# Altium footprint library SO.PcbLib: 18 footprints (part 2 of 2)
Each footprint in its own frame and in the unit in brackets; x right, y up, seen from the top. Pads: shape width x height; smd on the part's side, far side on the other; paste and mask are expansions set on the pad; w line width, h text height; cw(c..) or ccw(c..) is an arc to the next point about the centre after c.
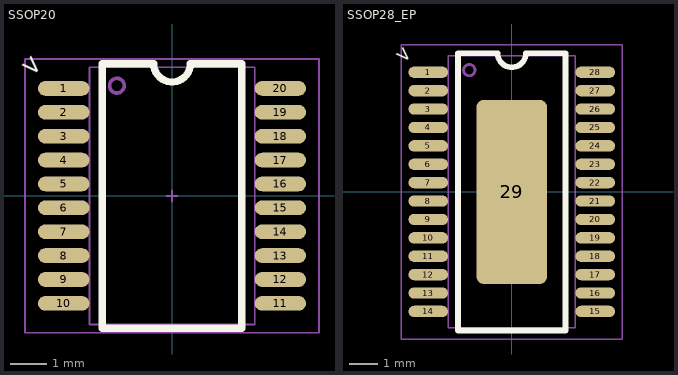
[diagram p1: the footprints below, top view; thin cyan lines are the x and y axes]

## SSOP20 [mm]
pads (20):
  oval 1.4x0.4 smd mask+0.05: 1(-2.95,2.925) 2(-2.95,2.275) 3(-2.95,1.625) 4(-2.95,0.975) 5(-2.95,0.325) 6(-2.95,-0.325) 7(-2.95,-0.975) 8(-2.95,-1.625) 9(-2.95,-2.275) 10(-2.95,-2.925) 11(2.95,-2.925) 12(2.95,-2.275) 13(2.95,-1.625) 14(2.95,-0.975) 15(2.95,-0.325) 16(2.95,0.325) 17(2.95,0.975) 18(2.95,1.625) 19(2.95,2.275) 20(2.95,2.925)
Top Overlay:
  lines w0.2: -1.9,-3.6 -1.9,3.6 -0.5,3.6 ccw(c0,3.6) 0.5,3.6 1.9,3.6 1.9,-3.6 -1.9,-3.6
  text ">" at -4.165,3.587 h0.5
Top Assembly:
  circle w0.1: c-1.5,3 r0.2
  lines w0.05: -2.25,-3.5 2.25,-3.5 2.25,3.5 -2.25,3.5 -2.25,-3.5
Top Courtyard:
  lines w0.05: -4,-3.725 -4,3.725 4,3.725 4,-3.725 -4,-3.725
Top Component Center:
  lines w0.05: -0.15,0 0.15,0 ; 0,-0.15 0,0.15
3D body "TSSOP20 LD.step": height 1.2, standoff 0, extent -3.2,-3.3 3.2,3.3

## SSOP28_EP [mm]
pads (29):
  oval 1.4x0.4 smd mask+0.05: 1(-2.95,4.225) 2(-2.95,3.575) 3(-2.95,2.925) 4(-2.95,2.275) 5(-2.95,1.625) 6(-2.95,0.975) 7(-2.95,0.325) 8(-2.95,-0.325) 9(-2.95,-0.975) 10(-2.95,-1.625) 11(-2.95,-2.275) 12(-2.95,-2.925) 13(-2.95,-3.575) 14(-2.95,-4.225) 15(2.95,-4.225) 16(2.95,-3.575) 17(2.95,-2.925) 18(2.95,-2.275) 19(2.95,-1.625) 20(2.95,-0.975) 21(2.95,-0.325) 22(2.95,0.325) 23(2.95,0.975) 24(2.95,1.625) 25(2.95,2.275) 26(2.95,2.925) 27(2.95,3.575) 28(2.95,4.225)
  rrect20% 2.5x6.5 smd mask+0.05: 29(0,0)
Top Overlay:
  lines w0.2: -1.9,-4.9 1.9,-4.9 1.9,4.9 0.5,4.9 cw(c0,4.9) -0.5,4.9 -1.9,4.9 -1.9,-4.9
  text ">" at -4.165,4.887 h0.5
Top Assembly:
  circle w0.1: c-1.5,4.3 r0.2
  lines w0.05: -2.25,-4.8 -2.25,4.8 2.25,4.8 2.25,-4.8 -2.25,-4.8
Top Courtyard:
  lines w0.05: -3.9,-5.2 -3.9,5.2 3.9,5.2 3.9,-5.2 -3.9,-5.2
Top Component Center:
  lines w0.05: -0.15,0 0.15,0 ; 0,-0.15 0,0.15
3D body "TSSOP-28.stp": height 1.11, standoff 0.01, extent -3.215,-4.5 3.215,4.5